# EAGLE library part RJ-11/12 (library connectors)
6 Pin RJ-12 Connector Digikey Part Number: A9031-ND
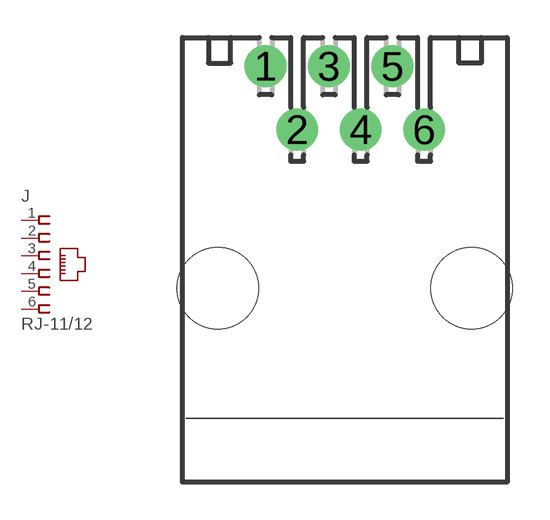
[diagram p0: symbol with the pads of RJ-11/12; footprint RJ-11/12]

Designator prefix J

## RJ-11/12TH  [RJ-11/12]
1  1  pas
2  2  pas
3  3  pas
4  4  pas
5  5  pas
6  6  pas

## Footprint RJ-11/12 (pad centres in mm)
Modular Jack without Panel Stops
drill 0.889 pad 1.676 round: 1 -3.175,7.747; 2 -1.905,5.207; 3 -0.635,7.747; 4 0.635,5.207; 5 1.905,7.747; 6 3.175,5.207
hole 3.251 at -5.08,-1.143
hole 3.251 at 5.08,-1.143